# Altium footprint library imx8mnano.PcbLib: 57 footprints (part 4 of 4)
Each footprint in its own frame and in the unit in brackets; x right, y up, seen from the top. Pads: shape width x height; smd on the part's side, far side on the other; paste and mask are expansions set on the pad; w line width, h text height; cw(c..) or ccw(c..) is an arc to the next point about the centre after c.
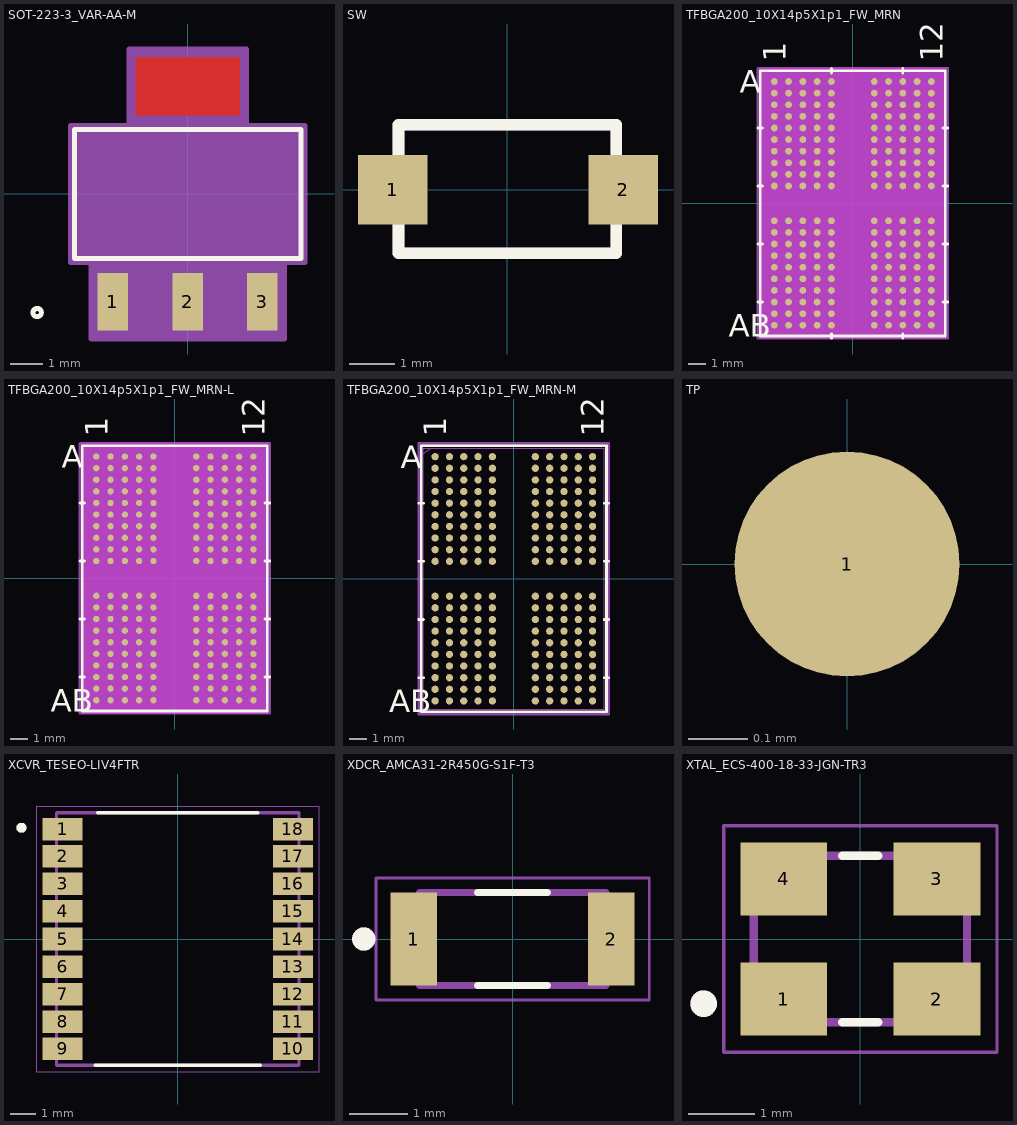
[diagram p3: the footprints below, top view; thin cyan lines are the x and y axes]

## SOT-223-3_VAR-AA-M [mil]
pads (3):
  rect 37x70 smd paste+0 mask+0: 1(-90.55,-130.5) 2(0,-130.5) 3(90.55,-130.5)
Top Layer:
  region: 63,95.5 63,165.5 -63,165.5 -63,95.5
Top Overlay:
  circle w6: c-182,-143.5 r5
  lines w6: -137,-78 -137,78 137,78 137,-78 -137,-78
Top Paste:
  region: 63,95.5 63,165.5 -63,165.5 -63,95.5
Top Solder:
  region: 65,77.5 65,187.5 -65,187.5 -65,77.5
Mechanical 13:
  circle w0: c-122,-63 r5
  lines w1: -132,-73 -132,73 132,73 132,-73 -132,-73 ; -107.05,-143.5 -74.05,-143.5 -74.05,-73 -107.05,-73 -107.05,-143.5 ; -61,73 -61,143.5 61,143.5 61,73 -61,73 ; -16.5,-143.5 16.5,-143.5 16.5,-73 -16.5,-73 -16.5,-143.5 ; 74.05,-143.5 107.05,-143.5 107.05,-73 74.05,-73 74.05,-143.5
Mechanical 15:
  region: -142,-83 -142,83 -71,83 -71,175.5 71,175.5 71,83 142,83 142,-83 117.05,-83 117.05,-175.5 -117.05,-175.5 -117.05,-83
  lines w6: -142,-83 -117.05,-83 -117.05,-175.5 117.05,-175.5 117.05,-83 142,-83 142,83 71,83 71,175.5 -71,175.5 -71,83 -142,83 -142,-83
3D body "SOT-223-3_VAR-AA.step": height 71.1, standoff 0, extent -132.01,-143.5 132.01,143.5

## SW [mil]
pads (2):
  rect 60x60 smd: 1(-99,0) 2(100,0)
Top Overlay:
  lines w10: -94,-55 94,-55 94,56 -94,56 -94,-55
Mechanical 1:
  lines w10: -94,-55 -94,56 94,56 94,-55 -94,-55
3D body "SKRKAHE020--3DModel-STEP-56544.STEP": height 86.61, standoff 0, extent -94.49,-57.09 94.49,57.09

## TFBGA200_10X14p5X1p1_FW_MRN [mil]
pads (200):
  round 15 smd paste+0 mask+0: A1(-173.23,268.69) A2(-141.73,268.69) A3(-110.24,268.69) A4(-78.74,268.69) A5(-47.24,268.69) A8(47.24,268.69) A9(78.74,268.69) A10(110.24,268.69) A11(141.73,268.69) A12(173.23,268.69) AA1(-173.23,-243.1) AA2(-141.73,-243.1) AA3(-110.24,-243.1) AA4(-78.74,-243.1) AA5(-47.24,-243.1) AA8(47.24,-243.1) AA9(78.74,-243.1) AA10(110.24,-243.1) AA11(141.73,-243.1) AA12(173.23,-243.1) AB1(-173.23,-268.69) AB2(-141.73,-268.69) AB3(-110.24,-268.69) AB4(-78.74,-268.69) AB5(-47.24,-268.69) AB8(47.24,-268.69) AB9(78.74,-268.69) AB10(110.24,-268.69) AB11(141.73,-268.69) AB12(173.23,-268.69) B1(-173.23,243.1) B2(-141.73,243.1) B3(-110.24,243.1) B4(-78.74,243.1) B5(-47.24,243.1) B8(47.24,243.1) B9(78.74,243.1) B10(110.24,243.1) B11(141.73,243.1) B12(173.23,243.1) C1(-173.23,217.51) C2(-141.73,217.51) C3(-110.24,217.51) C4(-78.74,217.51) C5(-47.24,217.51) C8(47.24,217.51) C9(78.74,217.51) C10(110.24,217.51) C11(141.73,217.51) C12(173.23,217.51) D1(-173.23,191.93) D2(-141.73,191.93) D3(-110.24,191.93) D4(-78.74,191.93) D5(-47.24,191.93) D8(47.24,191.93) D9(78.74,191.93) D10(110.24,191.93) D11(141.73,191.93) D12(173.23,191.93) E1(-173.23,166.34) E2(-141.73,166.34) E3(-110.24,166.34) E4(-78.74,166.34) E5(-47.24,166.34) E8(47.24,166.34) E9(78.74,166.34) E10(110.24,166.34) E11(141.73,166.34) E12(173.23,166.34) F1(-173.23,140.75) F2(-141.73,140.75) F3(-110.24,140.75) F4(-78.74,140.75) F5(-47.24,140.75) F8(47.24,140.75) F9(78.74,140.75) F10(110.24,140.75) F11(141.73,140.75) F12(173.23,140.75) G1(-173.23,115.16) G2(-141.73,115.16) G3(-110.24,115.16) G4(-78.74,115.16) G5(-47.24,115.16) G8(47.24,115.16) G9(78.74,115.16) G10(110.24,115.16) G11(141.73,115.16) G12(173.23,115.16) H1(-173.23,89.56) H2(-141.73,89.56) H3(-110.24,89.56) H4(-78.74,89.56) H5(-47.24,89.56) H8(47.24,89.56) H9(78.74,89.56) H10(110.24,89.56) H11(141.73,89.56) H12(173.23,89.56) J1(-173.23,63.98) J2(-141.73,63.98) J3(-110.24,63.98) J4(-78.74,63.98) J5(-47.24,63.98) J8(47.24,63.98) J9(78.74,63.98) J10(110.24,63.98) J11(141.73,63.98) J12(173.23,63.98) K1(-173.23,38.38) K2(-141.73,38.38) K3(-110.24,38.38) K4(-78.74,38.38) K5(-47.24,38.38) K8(47.24,38.38) K9(78.74,38.38) K10(110.24,38.38) K11(141.73,38.38) K12(173.23,38.38) N1(-173.23,-38.38) N2(-141.73,-38.38) N3(-110.24,-38.38) N4(-78.74,-38.38) N5(-47.24,-38.38) N8(47.24,-38.38) N9(78.74,-38.38) N10(110.24,-38.38) N11(141.73,-38.38) N12(173.23,-38.38) P1(-173.23,-63.98) P2(-141.73,-63.98) P3(-110.24,-63.98) P4(-78.74,-63.98) P5(-47.24,-63.98) P8(47.24,-63.98) P9(78.74,-63.98) P10(110.24,-63.98) P11(141.73,-63.98) P12(173.23,-63.98) R1(-173.23,-89.56) R2(-141.73,-89.56) R3(-110.24,-89.56) R4(-78.74,-89.56) R5(-47.24,-89.56) R8(47.24,-89.56) R9(78.74,-89.56) R10(110.24,-89.56) R11(141.73,-89.56) R12(173.23,-89.56) T1(-173.23,-115.16) T2(-141.73,-115.16) T3(-110.24,-115.16) T4(-78.74,-115.16) T5(-47.24,-115.16) T8(47.24,-115.16) T9(78.74,-115.16) T10(110.24,-115.16) T11(141.73,-115.16) T12(173.23,-115.16) U1(-173.23,-140.75) U2(-141.73,-140.75) U3(-110.24,-140.75) U4(-78.74,-140.75) U5(-47.24,-140.75) U8(47.24,-140.75) U9(78.74,-140.75) U10(110.24,-140.75) U11(141.73,-140.75) U12(173.23,-140.75) V1(-173.23,-166.34) V2(-141.73,-166.34) V3(-110.24,-166.34) V4(-78.74,-166.34) V5(-47.24,-166.34) V8(47.24,-166.34) V9(78.74,-166.34) V10(110.24,-166.34) V11(141.73,-166.34) V12(173.23,-166.34) W1(-173.23,-191.93) W2(-141.73,-191.93) W3(-110.24,-191.93) W4(-78.74,-191.93) W5(-47.24,-191.93) W8(47.24,-191.93) W9(78.74,-191.93) W10(110.24,-191.93) W11(141.73,-191.93) W12(173.23,-191.93) Y1(-173.23,-217.51) Y2(-141.73,-217.51) Y3(-110.24,-217.51) Y4(-78.74,-217.51) Y5(-47.24,-217.51) Y8(47.24,-217.51) Y9(78.74,-217.51) Y10(110.24,-217.51) Y11(141.73,-217.51) Y12(173.23,-217.51)
Top Overlay:
  lines w6: -209,-217.51 -199,-217.51 ; -209,-89.56 -199,-89.56 ; -209,38.39 -199,38.39 ; -209,166.34 -199,166.34 ; -47.24,-297.5 -47.24,-287.5 ; -47.24,287.5 -47.24,297.5 ; 110.24,-297.5 110.24,-287.5 ; 110.24,287.5 110.24,297.5 ; 199,-217.51 209,-217.51 ; 199,-89.56 209,-89.56 ; 199,38.39 209,38.39 ; 199,166.34 209,166.34 ; -204,-292.5 204,-292.5 204,292.5 -204,292.5 -204,-292.5
  text "A" at -249,243.69 h50
  text "AB" at -274,-293.69 h50
  text "1" at -148.23,312.5 h50
  text "12" at 198.23,312.5 h50
Bottom Overlay:
  text "A" at -224,243.69 h50
  text "AB" at -224,-293.69 h50
  text "1" at -198.23,312.5 h50
  text "12" at 148.23,312.5 h50
Keep-Out Layer:
  region: -206.48,-298.99 -206.48,298.99 206.48,298.99 206.48,-298.99
Mechanical 13:
  lines w1: -199,274.7 -183.25,287.5 ; -199,-287.5 199,-287.5 199,287.5 -199,287.5 -199,-287.5
  text "A" at -249,243.69 h50
  text "AB" at -274,-293.69 h50
  text "1" at -148.23,312.5 h50
  text "12" at 198.23,312.5 h50
Mechanical 15:
  region: 209,-297.5 -209,-297.5 -209,297.5 209,297.5
  lines w6: -209,-297.5 -209,297.5 209,297.5 209,-297.5 -209,-297.5
3D body "TFBGA200_10X14p5X1p1_FW_MRN.step": height 43.11, standoff -0.01, extent -199.02,-287.48 199.02,287.48

## TFBGA200_10X14p5X1p1_FW_MRN-L [mil]
pads (200):
  round 14 smd paste+0 mask+0: A1(-173.23,268.69) A2(-141.73,268.69) A3(-110.24,268.69) A4(-78.74,268.69) A5(-47.24,268.69) A8(47.24,268.69) A9(78.74,268.69) A10(110.24,268.69) A11(141.73,268.69) A12(173.23,268.69) AA1(-173.23,-243.1) AA2(-141.73,-243.1) AA3(-110.24,-243.1) AA4(-78.74,-243.1) AA5(-47.24,-243.1) AA8(47.24,-243.1) AA9(78.74,-243.1) AA10(110.24,-243.1) AA11(141.73,-243.1) AA12(173.23,-243.1) AB1(-173.23,-268.69) AB2(-141.73,-268.69) AB3(-110.24,-268.69) AB4(-78.74,-268.69) AB5(-47.24,-268.69) AB8(47.24,-268.69) AB9(78.74,-268.69) AB10(110.24,-268.69) AB11(141.73,-268.69) AB12(173.23,-268.69) B1(-173.23,243.1) B2(-141.73,243.1) B3(-110.24,243.1) B4(-78.74,243.1) B5(-47.24,243.1) B8(47.24,243.1) B9(78.74,243.1) B10(110.24,243.1) B11(141.73,243.1) B12(173.23,243.1) C1(-173.23,217.51) C2(-141.73,217.51) C3(-110.24,217.51) C4(-78.74,217.51) C5(-47.24,217.51) C8(47.24,217.51) C9(78.74,217.51) C10(110.24,217.51) C11(141.73,217.51) C12(173.23,217.51) D1(-173.23,191.93) D2(-141.73,191.93) D3(-110.24,191.93) D4(-78.74,191.93) D5(-47.24,191.93) D8(47.24,191.93) D9(78.74,191.93) D10(110.24,191.93) D11(141.73,191.93) D12(173.23,191.93) E1(-173.23,166.34) E2(-141.73,166.34) E3(-110.24,166.34) E4(-78.74,166.34) E5(-47.24,166.34) E8(47.24,166.34) E9(78.74,166.34) E10(110.24,166.34) E11(141.73,166.34) E12(173.23,166.34) F1(-173.23,140.75) F2(-141.73,140.75) F3(-110.24,140.75) F4(-78.74,140.75) F5(-47.24,140.75) F8(47.24,140.75) F9(78.74,140.75) F10(110.24,140.75) F11(141.73,140.75) F12(173.23,140.75) G1(-173.23,115.16) G2(-141.73,115.16) G3(-110.24,115.16) G4(-78.74,115.16) G5(-47.24,115.16) G8(47.24,115.16) G9(78.74,115.16) G10(110.24,115.16) G11(141.73,115.16) G12(173.23,115.16) H1(-173.23,89.56) H2(-141.73,89.56) H3(-110.24,89.56) H4(-78.74,89.56) H5(-47.24,89.56) H8(47.24,89.56) H9(78.74,89.56) H10(110.24,89.56) H11(141.73,89.56) H12(173.23,89.56) J1(-173.23,63.98) J2(-141.73,63.98) J3(-110.24,63.98) J4(-78.74,63.98) J5(-47.24,63.98) J8(47.24,63.98) J9(78.74,63.98) J10(110.24,63.98) J11(141.73,63.98) J12(173.23,63.98) K1(-173.23,38.38) K2(-141.73,38.38) K3(-110.24,38.38) K4(-78.74,38.38) K5(-47.24,38.38) K8(47.24,38.38) K9(78.74,38.38) K10(110.24,38.38) K11(141.73,38.38) K12(173.23,38.38) N1(-173.23,-38.38) N2(-141.73,-38.38) N3(-110.24,-38.38) N4(-78.74,-38.38) N5(-47.24,-38.38) N8(47.24,-38.38) N9(78.74,-38.38) N10(110.24,-38.38) N11(141.73,-38.38) N12(173.23,-38.38) P1(-173.23,-63.98) P2(-141.73,-63.98) P3(-110.24,-63.98) P4(-78.74,-63.98) P5(-47.24,-63.98) P8(47.24,-63.98) P9(78.74,-63.98) P10(110.24,-63.98) P11(141.73,-63.98) P12(173.23,-63.98) R1(-173.23,-89.56) R2(-141.73,-89.56) R3(-110.24,-89.56) R4(-78.74,-89.56) R5(-47.24,-89.56) R8(47.24,-89.56) R9(78.74,-89.56) R10(110.24,-89.56) R11(141.73,-89.56) R12(173.23,-89.56) T1(-173.23,-115.16) T2(-141.73,-115.16) T3(-110.24,-115.16) T4(-78.74,-115.16) T5(-47.24,-115.16) T8(47.24,-115.16) T9(78.74,-115.16) T10(110.24,-115.16) T11(141.73,-115.16) T12(173.23,-115.16) U1(-173.23,-140.75) U2(-141.73,-140.75) U3(-110.24,-140.75) U4(-78.74,-140.75) U5(-47.24,-140.75) U8(47.24,-140.75) U9(78.74,-140.75) U10(110.24,-140.75) U11(141.73,-140.75) U12(173.23,-140.75) V1(-173.23,-166.34) V2(-141.73,-166.34) V3(-110.24,-166.34) V4(-78.74,-166.34) V5(-47.24,-166.34) V8(47.24,-166.34) V9(78.74,-166.34) V10(110.24,-166.34) V11(141.73,-166.34) V12(173.23,-166.34) W1(-173.23,-191.93) W2(-141.73,-191.93) W3(-110.24,-191.93) W4(-78.74,-191.93) W5(-47.24,-191.93) W8(47.24,-191.93) W9(78.74,-191.93) W10(110.24,-191.93) W11(141.73,-191.93) W12(173.23,-191.93) Y1(-173.23,-217.51) Y2(-141.73,-217.51) Y3(-110.24,-217.51) Y4(-78.74,-217.51) Y5(-47.24,-217.51) Y8(47.24,-217.51) Y9(78.74,-217.51) Y10(110.24,-217.51) Y11(141.73,-217.51) Y12(173.23,-217.51)
Top Overlay:
  lines w6: -209,-217.51 -199,-217.51 ; -209,-89.56 -199,-89.56 ; -209,38.39 -199,38.39 ; -209,166.34 -199,166.34 ; 199,-217.51 209,-217.51 ; 199,-89.56 209,-89.56 ; 199,38.39 209,38.39 ; 199,166.34 209,166.34 ; -204,-292.5 -204,292.5 204,292.5 204,-292.5 -204,-292.5
  text "12" at 198.23,312.5 h50
  text "1" at -148.23,312.5 h50
  text "AB" at -274,-293.69 h50
  text "A" at -249,243.69 h50
Bottom Overlay:
  text "12" at 148.23,312.5 h50
  text "1" at -198.23,312.5 h50
  text "AB" at -224,-293.69 h50
  text "A" at -224,243.69 h50
Keep-Out Layer:
  region: -206.48,-298.99 -206.48,298.99 206.48,298.99 206.48,-298.99
Mechanical 13:
  lines w1: -199,274.7 -183.25,287.5 ; -199,-287.5 -199,287.5 199,287.5 199,-287.5 -199,-287.5
  text "12" at 198.23,312.5 h50
  text "1" at -148.23,312.5 h50
  text "AB" at -274,-293.69 h50
  text "A" at -249,243.69 h50
Mechanical 15:
  region: 209,-297.5 -209,-297.5 -209,297.5 209,297.5
  lines w6: -209,-297.5 209,-297.5 209,297.5 -209,297.5 -209,-297.5
3D body "TFBGA200_10X14p5X1p1_FW_MRN.step": height 43.11, standoff -0.01, extent -199.02,-287.48 199.02,287.48

## TFBGA200_10X14p5X1p1_FW_MRN-M [mil]
pads (200):
  round 16 smd paste+0 mask+0: A1(-173.23,268.69) A2(-141.73,268.69) A3(-110.24,268.69) A4(-78.74,268.69) A5(-47.24,268.69) A8(47.24,268.69) A9(78.74,268.69) A10(110.24,268.69) A11(141.73,268.69) A12(173.23,268.69) AA1(-173.23,-243.1) AA2(-141.73,-243.1) AA3(-110.24,-243.1) AA4(-78.74,-243.1) AA5(-47.24,-243.1) AA8(47.24,-243.1) AA9(78.74,-243.1) AA10(110.24,-243.1) AA11(141.73,-243.1) AA12(173.23,-243.1) AB1(-173.23,-268.69) AB2(-141.73,-268.69) AB3(-110.24,-268.69) AB4(-78.74,-268.69) AB5(-47.24,-268.69) AB8(47.24,-268.69) AB9(78.74,-268.69) AB10(110.24,-268.69) AB11(141.73,-268.69) AB12(173.23,-268.69) B1(-173.23,243.1) B2(-141.73,243.1) B3(-110.24,243.1) B4(-78.74,243.1) B5(-47.24,243.1) B8(47.24,243.1) B9(78.74,243.1) B10(110.24,243.1) B11(141.73,243.1) B12(173.23,243.1) C1(-173.23,217.51) C2(-141.73,217.51) C3(-110.24,217.51) C4(-78.74,217.51) C5(-47.24,217.51) C8(47.24,217.51) C9(78.74,217.51) C10(110.24,217.51) C11(141.73,217.51) C12(173.23,217.51) D1(-173.23,191.93) D2(-141.73,191.93) D3(-110.24,191.93) D4(-78.74,191.93) D5(-47.24,191.93) D8(47.24,191.93) D9(78.74,191.93) D10(110.24,191.93) D11(141.73,191.93) D12(173.23,191.93) E1(-173.23,166.34) E2(-141.73,166.34) E3(-110.24,166.34) E4(-78.74,166.34) E5(-47.24,166.34) E8(47.24,166.34) E9(78.74,166.34) E10(110.24,166.34) E11(141.73,166.34) E12(173.23,166.34) F1(-173.23,140.75) F2(-141.73,140.75) F3(-110.24,140.75) F4(-78.74,140.75) F5(-47.24,140.75) F8(47.24,140.75) F9(78.74,140.75) F10(110.24,140.75) F11(141.73,140.75) F12(173.23,140.75) G1(-173.23,115.16) G2(-141.73,115.16) G3(-110.24,115.16) G4(-78.74,115.16) G5(-47.24,115.16) G8(47.24,115.16) G9(78.74,115.16) G10(110.24,115.16) G11(141.73,115.16) G12(173.23,115.16) H1(-173.23,89.56) H2(-141.73,89.56) H3(-110.24,89.56) H4(-78.74,89.56) H5(-47.24,89.56) H8(47.24,89.56) H9(78.74,89.56) H10(110.24,89.56) H11(141.73,89.56) H12(173.23,89.56) J1(-173.23,63.98) J2(-141.73,63.98) J3(-110.24,63.98) J4(-78.74,63.98) J5(-47.24,63.98) J8(47.24,63.98) J9(78.74,63.98) J10(110.24,63.98) J11(141.73,63.98) J12(173.23,63.98) K1(-173.23,38.38) K2(-141.73,38.38) K3(-110.24,38.38) K4(-78.74,38.38) K5(-47.24,38.38) K8(47.24,38.38) K9(78.74,38.38) K10(110.24,38.38) K11(141.73,38.38) K12(173.23,38.38) N1(-173.23,-38.38) N2(-141.73,-38.38) N3(-110.24,-38.38) N4(-78.74,-38.38) N5(-47.24,-38.38) N8(47.24,-38.38) N9(78.74,-38.38) N10(110.24,-38.38) N11(141.73,-38.38) N12(173.23,-38.38) P1(-173.23,-63.98) P2(-141.73,-63.98) P3(-110.24,-63.98) P4(-78.74,-63.98) P5(-47.24,-63.98) P8(47.24,-63.98) P9(78.74,-63.98) P10(110.24,-63.98) P11(141.73,-63.98) P12(173.23,-63.98) R1(-173.23,-89.56) R2(-141.73,-89.56) R3(-110.24,-89.56) R4(-78.74,-89.56) R5(-47.24,-89.56) R8(47.24,-89.56) R9(78.74,-89.56) R10(110.24,-89.56) R11(141.73,-89.56) R12(173.23,-89.56) T1(-173.23,-115.16) T2(-141.73,-115.16) T3(-110.24,-115.16) T4(-78.74,-115.16) T5(-47.24,-115.16) T8(47.24,-115.16) T9(78.74,-115.16) T10(110.24,-115.16) T11(141.73,-115.16) T12(173.23,-115.16) U1(-173.23,-140.75) U2(-141.73,-140.75) U3(-110.24,-140.75) U4(-78.74,-140.75) U5(-47.24,-140.75) U8(47.24,-140.75) U9(78.74,-140.75) U10(110.24,-140.75) U11(141.73,-140.75) U12(173.23,-140.75) V1(-173.23,-166.34) V2(-141.73,-166.34) V3(-110.24,-166.34) V4(-78.74,-166.34) V5(-47.24,-166.34) V8(47.24,-166.34) V9(78.74,-166.34) V10(110.24,-166.34) V11(141.73,-166.34) V12(173.23,-166.34) W1(-173.23,-191.93) W2(-141.73,-191.93) W3(-110.24,-191.93) W4(-78.74,-191.93) W5(-47.24,-191.93) W8(47.24,-191.93) W9(78.74,-191.93) W10(110.24,-191.93) W11(141.73,-191.93) W12(173.23,-191.93) Y1(-173.23,-217.51) Y2(-141.73,-217.51) Y3(-110.24,-217.51) Y4(-78.74,-217.51) Y5(-47.24,-217.51) Y8(47.24,-217.51) Y9(78.74,-217.51) Y10(110.24,-217.51) Y11(141.73,-217.51) Y12(173.23,-217.51)
Top Overlay:
  lines w6: -209,-217.51 -199,-217.51 ; -209,-89.56 -199,-89.56 ; -209,38.39 -199,38.39 ; -209,166.34 -199,166.34 ; 199,-217.51 209,-217.51 ; 199,-89.56 209,-89.56 ; 199,38.39 209,38.39 ; 199,166.34 209,166.34 ; -204,-292.5 -204,292.5 204,292.5 204,-292.5 -204,-292.5
  text "12" at 198.23,312.5 h50
  text "1" at -148.23,312.5 h50
  text "AB" at -274,-293.69 h50
  text "A" at -249,243.69 h50
Bottom Overlay:
  text "12" at 148.23,312.5 h50
  text "1" at -198.23,312.5 h50
  text "AB" at -224,-293.69 h50
  text "A" at -224,243.69 h50
Mechanical 13:
  lines w1: -199,274.7 -183.25,287.5 ; -199,-287.5 -199,287.5 199,287.5 199,-287.5 -199,-287.5
  text "12" at 198.23,312.5 h50
  text "1" at -148.23,312.5 h50
  text "AB" at -274,-293.69 h50
  text "A" at -249,243.69 h50
Mechanical 15:
  lines w6: -209,-297.5 209,-297.5 209,297.5 -209,297.5 -209,-297.5

## TP [mil]
pads (1):
  round 15 smd mask+1: 1(0,0)

## XCVR_TESEO-LIV4FTR [mm]
height 2.3
pads (18):
  rect 1.6x0.9 smd: 1(-4.6,4.4) 2(-4.6,3.3) 3(-4.6,2.2) 4(-4.6,1.1) 5(-4.6,0) 6(-4.6,-1.1) 7(-4.6,-2.2) 8(-4.6,-3.3) 9(-4.6,-4.4) 10(4.6,-4.4) 11(4.6,-3.3) 12(4.6,-2.2) 13(4.6,-1.1) 14(4.6,0) 15(4.6,1.1) 16(4.6,2.2) 17(4.6,3.3) 18(4.6,4.4)
Top Overlay:
  circle w0.2: c-6.25,4.45 r0.1
  lines w0.127: -3.3,-5.05 3.3,-5.05 ; -3.2,5.05 3.2,5.05
Mechanical 13:
  circle w0.2: c-6.25,4.45 r0.1
  lines w0.127: -4.85,-5.05 4.85,-5.05 4.85,5.05 -4.85,5.05 -4.85,-5.05
Mechanical 15:
  lines w0.05: -5.65,-5.3 -5.65,5.3 5.65,5.3 5.65,-5.3 -5.65,-5.3
3D body "TESEO-LIV4FTR.STEP": height 2.3, standoff 0, extent -4.85,-5.05 4.85,5.05

## XDCR_AMCA31-2R450G-S1F-T3 [mm]
height 1.4
pads (2):
  rect 0.8x1.6 smd: 1(-1.7,0) 2(1.7,0)
Top Overlay:
  circle w0.2: c-2.558,0 r0.1
  lines w0.127: -0.6,-0.8 0.6,-0.8 ; -0.6,0.8 0.6,0.8
Mechanical 13:
  circle w0.2: c-2.558,0 r0.1
  lines w0.127: -1.6,-0.8 -1.6,0.8 1.6,0.8 1.6,-0.8 -1.6,-0.8
Mechanical 15:
  lines w0.05: -2.35,-1.05 -2.35,1.05 2.35,1.05 2.35,-1.05 -2.35,-1.05
3D body "step_temp.STEP": height 1.2, standoff 0, extent -1.6,-0.8 1.6,0.8

## XTAL_ECS-400-18-33-JGN-TR3 [mm]
pads (4):
  rect 1.3x1.1 smd: 1(-1.15,-0.9) 2(1.15,-0.9) 3(1.15,0.9) 4(-1.15,0.9)
Top Overlay:
  circle w0.2: c-2.35,-0.97 r0.1
  lines w0.127: -0.27,-1.25 0.27,-1.25 ; -0.27,1.25 0.27,1.25
Mechanical 13:
  circle w0.2: c-2.35,-0.97 r0.1
  lines w0.127: -1.6,-1.25 1.6,-1.25 1.6,1.25 -1.6,1.25 -1.6,-1.25
Mechanical 15:
  lines w0.05: -2.05,-1.7 2.05,-1.7 2.05,1.7 -2.05,1.7 -2.05,-1.7
3D body "ECS-400-18-33-JGN-TR3.STEP": height 0.8, standoff 0, extent -1.6,-1.25 1.6,1.25